# Altium integrated library TSM-104-02-T-SH-A.IntLib: 1 symbol
Pins are listed as number, name and electrical type; pins without a type are passive.

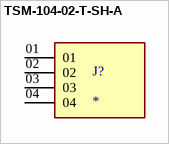
[diagram p0: symbol TSM-104-02-T-SH-A]

## TSM-104-02-T-SH-A
designator J?
Connector Header Surface Mount, Right Angle 4 position 0.100 (2.54mm); MP: TSM-104-02-T-SH-A-K-TR; MF: Samtec; SnapEDA_Link: https://www.snapeda.com/parts/TSM-104-02-T-SH-A-K-TR/Samtec/view-part/?ref=snap; Availability: In Stock; Package: None; Purchase-URL: https://pricing.snapeda.com/search/part/TSM-104-02-T-SH-A-K-TR/?ref=eda; Check_prices: https://www.snapeda.com/parts/TSM-104-02-T-SH-A-K-TR/Samtec/view-part/?ref=eda; Value: *; Price: None
footprint SAMTEC_TSM-104-02-T-SH-A
pins: 01, 02, 03, 04